# Altium footprint library B32320I8207K000.PcbLib: 1 footprints
Each footprint in its own frame and in the unit in brackets; x right, y up, seen from the top. Pads: shape width x height; smd on the part's side, far side on the other; paste and mask are expansions set on the pad; w line width, h text height; cw(c..) or ccw(c..) is an arc to the next point about the centre after c.
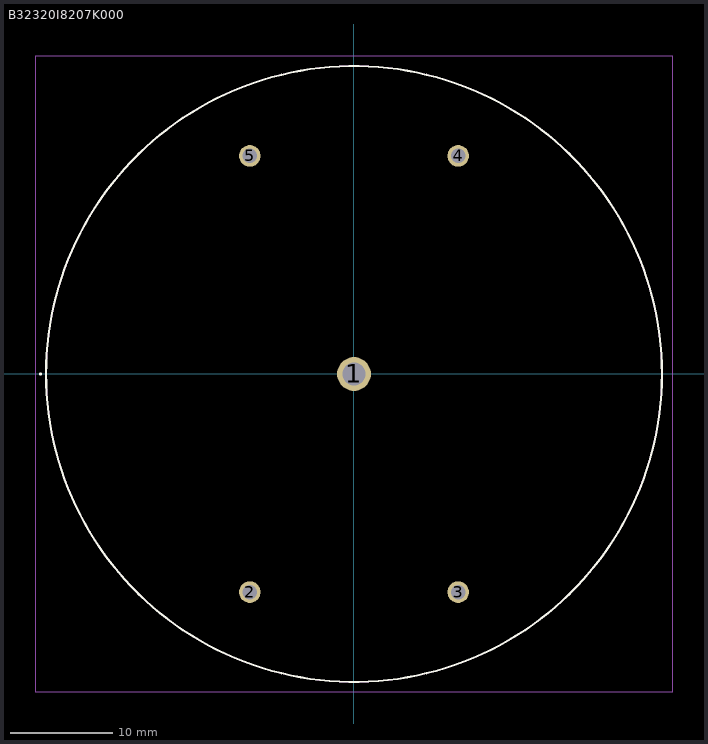
[diagram p0: the footprint, top view; thin cyan lines are the x and y axes]

## B32320I8207K000 [mm]
pads (5):
  round 3.3 hole 2.2: 1(0,0)
  round 2.1 hole 1.4: 2(-10.15,-21.25) 3(10.15,-21.25) 4(10.15,21.25) 5(-10.15,21.25)
Top Overlay:
  lines w0.2: -30.6,0 -30.6,0 ; -30.6,0 ccw(c-30.55,0) -30.5,0 ; -30.6,0 cw(c-30.55,0) -30.5,0 ; -30.6,0 -30.6,0 ; -30.6,0 ccw(c-30.55,0) -30.5,0 ; -30.5,0 -30.5,0 ; -30,0 -30,0 ; -30,0 ccw(c0,0) 30,0 ; -30,0 cw(c0,0) 30,0 ; 30,0 30,0
Mechanical 15:
  lines w0.1: -30,0 -30,0 ; -30,0 ccw(c0,0) 30,0 ; -30,0 cw(c0,0) 30,0 ; 30,0 30,0
Mechanical 20:
  lines w0.1: -31,-31 31,-31 31,31 -31,31 -31,-31